# EAGLE library part MT2502A_SOC (library Mediatek)
MT2502A SOC Processor
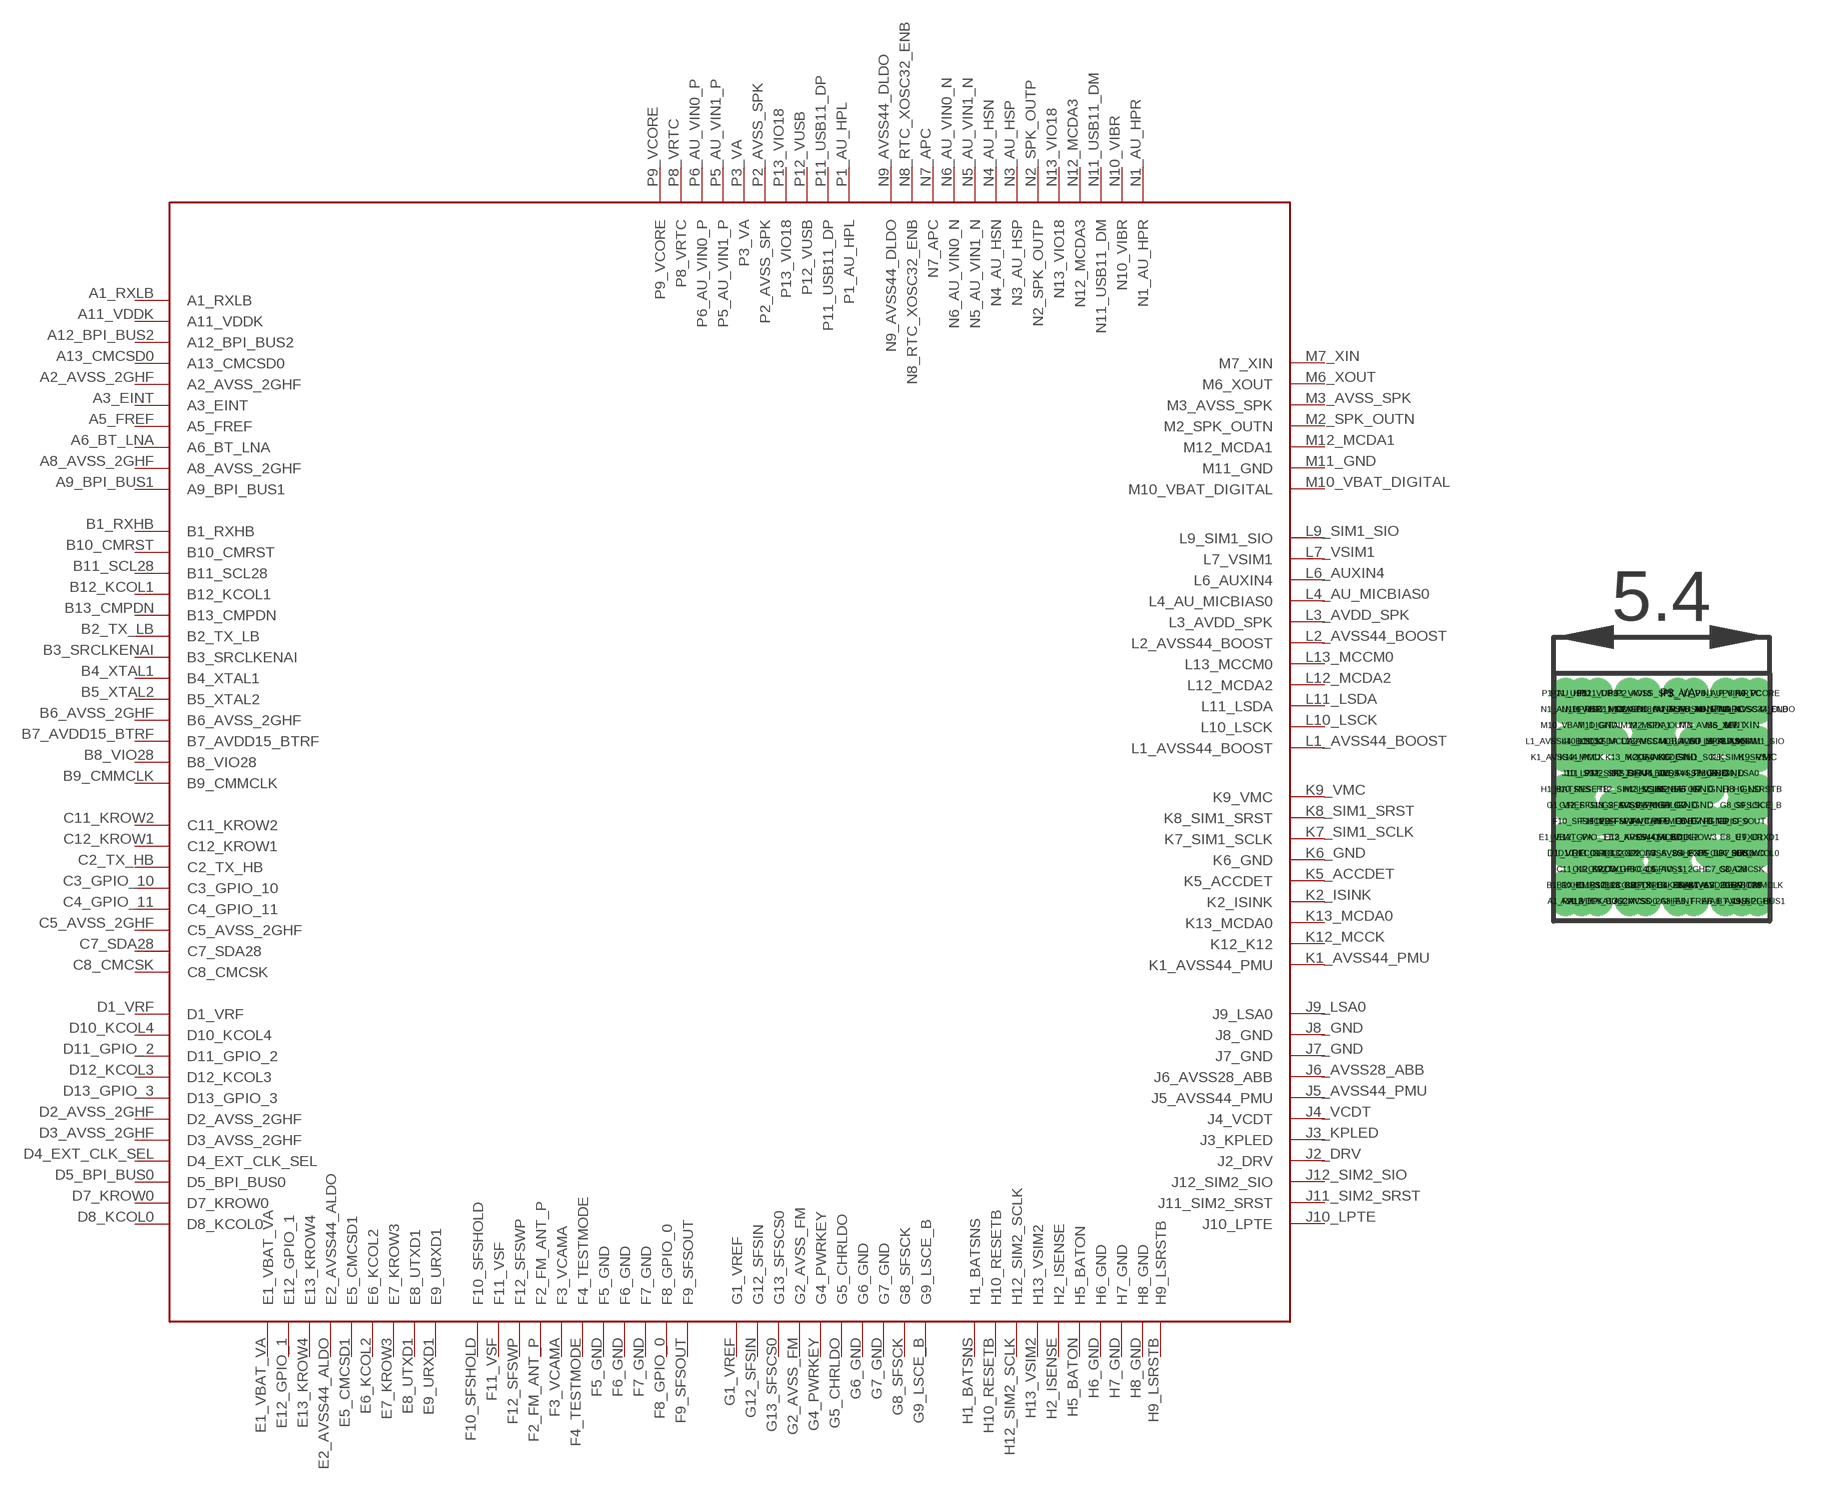
[diagram p0: symbol with the pads of MT2502A_SOC; footprint MT2502A_SOC]

Designator prefix -

## MT2502A_SOCMT2502A  [MT2502A_SOC]
A1_RXLB  A1_RXLB  in
A2_AVSS_2GHF  A2_AVSS_2GHF  pwr
A3_EINT  A3_EINT
A5_FREF  A5_FREF  out
A6_BT_LNA  A6_BT_LNA
A8_AVSS_2GHF  A8_AVSS_2GHF  pwr
A9_BPI_BUS1  A9_BPI_BUS1
A11_VDDK  A11_VDDK  pwr
A12_BPI_BUS2  A12_BPI_BUS2
A13_CMCSD0  A13_CMCSD0
B1_RXHB  B1_RXHB  in
B2_TX_LB  B2_TX_LB  out
B3_SRCLKENAI  B3_SRCLKENAI
B4_XTAL1  B4_XTAL1
B5_XTAL2  B5_XTAL2
B6_AVSS_2GHF  B6_AVSS_2GHF  pwr
B7_AVDD15_BTRF  B7_AVDD15_BTRF  pwr
B8_VIO28  B8_VIO28
B9_CMMCLK  B9_CMMCLK
B10_CMRST  B10_CMRST
B11_SCL28  B11_SCL28
B12_KCOL1  B12_KCOL1
B13_CMPDN  B13_CMPDN
C2_TX_HB  C2_TX_HB  out
C3_GPIO_10  C3_GPIO_10
C4_GPIO_11  C4_GPIO_11
C5_AVSS_2GHF  C5_AVSS_2GHF  pwr
C7_SDA28  C7_SDA28
C8_CMCSK  C8_CMCSK
C11_KROW2  C11_KROW2
C12_KROW1  C12_KROW1
D1_VRF  D1_VRF
D2_AVSS_2GHF  D2_AVSS_2GHF  pwr
D3_AVSS_2GHF  D3_AVSS_2GHF  pwr
D4_EXT_CLK_SEL  D4_EXT_CLK_SEL
D5_BPI_BUS0  D5_BPI_BUS0
D7_KROW0  D7_KROW0
D8_KCOL0  D8_KCOL0
D10_KCOL4  D10_KCOL4
D11_GPIO_2  D11_GPIO_2
D12_KCOL3  D12_KCOL3
D13_GPIO_3  D13_GPIO_3
E1_VBAT_VA  E1_VBAT_VA  pwr
E2_AVSS44_ALDO  E2_AVSS44_ALDO  pwr
E5_CMCSD1  E5_CMCSD1
E6_KCOL2  E6_KCOL2
E7_KROW3  E7_KROW3
E8_UTXD1  E8_UTXD1
E9_URXD1  E9_URXD1
E12_GPIO_1  E12_GPIO_1
E13_KROW4  E13_KROW4
F2_FM_ANT_P  F2_FM_ANT_P  in
F3_VCAMA  F3_VCAMA
F4_TESTMODE  F4_TESTMODE
F5_GND  F5_GND  pwr
F6_GND  F6_GND  pwr
F7_GND  F7_GND  pwr
F8_GPIO_0  F8_GPIO_0
F9_SFSOUT  F9_SFSOUT
F10_SFSHOLD  F10_SFSHOLD
F11_VSF  F11_VSF
F12_SFSWP  F12_SFSWP
G1_VREF  G1_VREF
G2_AVSS_FM  G2_AVSS_FM  pwr
G4_PWRKEY  G4_PWRKEY
G5_CHRLDO  G5_CHRLDO
G6_GND  G6_GND  pwr
G7_GND  G7_GND  pwr
G8_SFSCK  G8_SFSCK
G9_LSCE_B  G9_LSCE_B
G12_SFSIN  G12_SFSIN
G13_SFSCS0  G13_SFSCS0
H1_BATSNS  H1_BATSNS  pwr
H2_ISENSE  H2_ISENSE
H5_BATON  H5_BATON
H6_GND  H6_GND  pwr
H7_GND  H7_GND  pwr
H8_GND  H8_GND  pwr
H9_LSRSTB  H9_LSRSTB  pwr
H10_RESETB  H10_RESETB
H12_SIM2_SCLK  H12_SIM2_SCLK
H13_VSIM2  H13_VSIM2
J2_DRV  J2_DRV
J3_KPLED  J3_KPLED
J4_VCDT  J4_VCDT
J5_AVSS44_PMU  J5_AVSS44_PMU  pwr
J6_AVSS28_ABB  J6_AVSS28_ABB  pwr
J7_GND  J7_GND  pwr
J8_GND  J8_GND  pwr
J9_LSA0  J9_LSA0
J10_LPTE  J10_LPTE
J11_SIM2_SRST  J11_SIM2_SRST
J12_SIM2_SIO  J12_SIM2_SIO
K1_AVSS44_PMU  K1_AVSS44_PMU  pwr
K2_ISINK  K2_ISINK
K5_ACCDET  K5_ACCDET
K6_GND  K6_GND  pwr
K7_SIM1_SCLK  K7_SIM1_SCLK
K8_SIM1_SRST  K8_SIM1_SRST
K9_VMC  K9_VMC
K12_MCCK  K12_K12
K13_MCDA0  K13_MCDA0
L1_AVSS44_BOOST  L1_AVSS44_BOOST  pwr
L2_AVSS44_BOOST  L2_AVSS44_BOOST  pwr
L3_AVDD_SPK  L3_AVDD_SPK  pwr
L4_AU_MICBIAS0  L4_AU_MICBIAS0
L6_AUXIN4  L6_AUXIN4
L7_VSIM1  L7_VSIM1
L9_SIM1_SIO  L9_SIM1_SIO
L10_LSCK  L10_LSCK
L11_LSDA  L11_LSDA
L12_MCDA2  L12_MCDA2
L13_MCCM0  L13_MCCM0
M2_SPK_OUTN  M2_SPK_OUTN
M3_AVSS_SPK  M3_AVSS_SPK  pwr
M6_XOUT  M6_XOUT
M7_XIN  M7_XIN
M10_VBAT_DIGITAL  M10_VBAT_DIGITAL  pwr
M11_GND  M11_GND  pwr
M12_MCDA1  M12_MCDA1
N1_AU_HPR  N1_AU_HPR
N2_SPK_OUTP  N2_SPK_OUTP
N3_AU_HSP  N3_AU_HSP
N4_AU_HSN  N4_AU_HSN
N5_AU_VIN1_N  N5_AU_VIN1_N
N6_AU_VIN0_N  N6_AU_VIN0_N
N7_APC  N7_APC
N8_RTC_XOSC32_ENB  N8_RTC_XOSC32_ENB
N9_AVSS44_DLDO  N9_AVSS44_DLDO  pwr
N10_VIBR  N10_VIBR
N11_USB11_DM  N11_USB11_DM
N12_MCDA3  N12_MCDA3
N13_VIO18  N13_VIO18
P1_AU_HPL  P1_AU_HPL
P2_AVSS_SPK  P2_AVSS_SPK  pwr
P3_VA  P3_VA
P5_AU_VIN1_P  P5_AU_VIN1_P
P6_AU_VIN0_P  P6_AU_VIN0_P
P8_VRTC  P8_VRTC
P9_VCORE  P9_VCORE
P11_USB11_DP  P11_USB11_DP
P12_VUSB  P12_VUSB
P13_VIO18  P13_VIO18

## Footprint MT2502A_SOC (pad centres in mm)
drill 0.25 pad 0.25: A1_RXLB -2.4,-2.6; A2_AVSS_2GHF -0.4,-2.6; A3_EINT 0.4,-2.6; A5_FREF 0.8,-2.6; A6_BT_LNA 1.6,-2.6; A8_AVSS_2GHF 2,-2.6; A9_BPI_BUS1 2.4,-2.6; A11_VDDK -2,-2.6; A12_BPI_BUS2 -1.6,-2.6; A13_CMCSD0 -0.8,-2.6; B1_RXHB -2.4,-2.2; B2_TX_LB -0.4,-2.2; B3_SRCLKENAI 0,-2.2; B4_XTAL1 0.4,-2.2; B5_XTAL2 0.8,-2.2; B6_AVSS_2GHF 1.2,-2.2; B7_AVDD15_BTRF 1.6,-2.2; B8_VIO28 2,-2.2; B9_CMMCLK 2.4,-2.2; B10_CMRST -2,-2.2; B11_SCL28 -1.6,-2.2; B12_KCOL1 -1.2,-2.2; B13_CMPDN -0.8,-2.2; C2_TX_HB -1.2,-1.8; C3_GPIO_10 -0.8,-1.8; C4_GPIO_11 0,-1.8; C5_AVSS_2GHF 0.4,-1.8; C7_SDA28 1.6,-1.8; C8_CMCSK 2,-1.8; C11_KROW2 -2,-1.8; C12_KROW1 -1.6,-1.8; D1_VRF -2.4,-1.4; D2_AVSS_2GHF 0,-1.4; D3_AVSS_2GHF 0.4,-1.4; D4_EXT_CLK_SEL 1.2,-1.4; D5_BPI_BUS0 1.6,-1.4; D7_KROW0 2,-1.4; D8_KCOL0 2.4,-1.4; D10_KCOL4 -2,-1.4; D11_GPIO_2 -1.6,-1.4; D12_KCOL3 -1.2,-1.4; D13_GPIO_3 -0.8,-1.4; E1_VBAT_VA -2.4,-1; E2_AVSS44_ALDO -0.4,-1; E5_CMCSD1 0,-1; E6_KCOL2 0.4,-1; E7_KROW3 0.8,-1; E8_UTXD1 2,-1; E9_URXD1 2.4,-1; E12_GPIO_1 -2,-1; E13_KROW4 -0.8,-1; F2_FM_ANT_P -0.8,-0.6; F3_VCAMA -0.4,-0.6; F4_TESTMODE 0,-0.6; F5_GND 0.4,-0.6; F6_GND 0.8,-0.6; F7_GND 1.2,-0.6; F8_GPIO_0 1.6,-0.6; F9_SFSOUT 2,-0.6; F10_SFSHOLD -2,-0.6; F11_VSF -1.6,-0.6; F12_SFSWP -1.2,-0.6; G1_VREF -2.4,-0.2; G2_AVSS_FM -0.8,-0.2; G4_PWRKEY -0.4,-0.2; G5_CHRLDO 0,-0.2; G6_GND 0.4,-0.2; G7_GND 0.8,-0.2; G8_SFSCK 2,-0.2; G9_LSCE_B 2.4,-0.2; G12_SFSIN -2,-0.2; G13_SFSCS0 -1.2,-0.2; H1_BATSNS -2.4,0.2; H2_ISENSE 0,0.2; H5_BATON 0.4,0.2; H6_GND 0.8,0.2; H7_GND 1.2,0.2; H8_GND 2,0.2; H9_LSRSTB 2.4,0.2; H10_RESETB -2,0.2; H12_SIM2_SCLK -0.8,0.2; H13_VSIM2 -0.4,0.2; J2_DRV -0.8,0.6; J3_KPLED -0.4,0.6; J4_VCDT 0,0.6; J5_AVSS44_PMU 0.4,0.6; J6_AVSS28_ABB 0.8,0.6; J7_GND 1.2,0.6; J8_GND 1.6,0.6; J9_LSA0 2,0.6; J10_LPTE -2,0.6; J11_SIM2_SRST -1.6,0.6; J12_SIM2_SIO -1.2,0.6; K1_AVSS44_PMU -2.4,1; K2_ISINK -0.4,1; K5_ACCDET 0,1; K6_GND 0.4,1; K7_SIM1_SCLK 0.8,1; K8_SIM1_SRST 2,1; K9_VMC 2.4,1; K12_MCCK -2,1; K13_MCDA0 -0.8,1; L1_AVSS44_BOOST -2.4,1.4; L2_AVSS44_BOOST 0,1.4; L3_AVDD_SPK 0.8,1.4; L4_AU_MICBIAS0 1.2,1.4; L6_AUXIN4 1.6,1.4; L7_VSIM1 2,1.4; L9_SIM1_SIO 2.4,1.4; L10_LSCK -2,1.4; L11_LSDA -1.6,1.4; L12_MCDA2 -1.2,1.4; L13_MCCM0 -0.4,1.4; M2_SPK_OUTN 0,1.8; M3_AVSS_SPK 1.2,1.8; M6_XOUT 1.6,1.8; M7_XIN 2,1.8; M10_VBAT_DIGITAL -2,1.8; M11_GND -1.6,1.8; M12_MCDA1 -0.4,1.8; N1_AU_HPR -2.4,2.2; N2_SPK_OUTP -0.4,2.2; N3_AU_HSP 0,2.2; N4_AU_HSN 0.4,2.2; N5_AU_VIN1_N 0.8,2.2; N6_AU_VIN0_N 1.2,2.2; N7_APC 1.6,2.2; N8_RTC_XOSC32_ENB 2,2.2; N9_AVSS44_DLDO 2.4,2.2; N10_VIBR -2,2.2; N11_USB11_DM -1.6,2.2; N12_MCDA3 -1.2,2.2; N13_VIO18 -0.8,2.2; P1_AU_HPL -2.4,2.6; P2_AVSS_SPK -0.4,2.6; P3_VA 0.4,2.6; P5_AU_VIN1_P 0.8,2.6; P6_AU_VIN0_P 1.6,2.6; P8_VRTC 2,2.6; P9_VCORE 2.4,2.6; P11_USB11_DP -2,2.6; P12_VUSB -1.6,2.6; P13_VIO18 -0.8,2.6